# Altium footprint library CAPC4532X280N.PcbLib: 1 footprints
Each footprint in its own frame and in the unit in brackets; x right, y up, seen from the top. Pads: shape width x height; smd on the part's side, far side on the other; paste and mask are expansions set on the pad; w line width, h text height; cw(c..) or ccw(c..) is an arc to the next point about the centre after c.
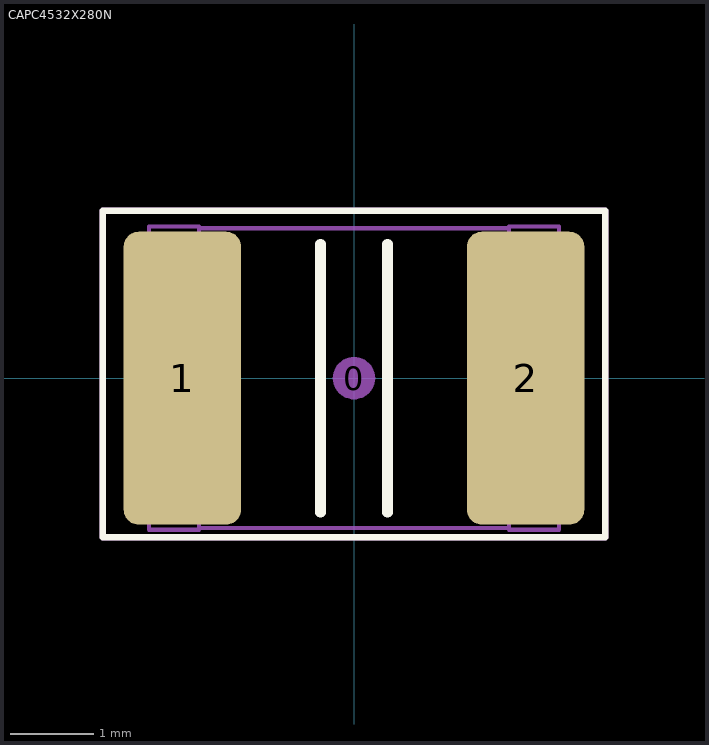
[diagram p0: the footprint, top view; thin cyan lines are the x and y axes]

## CAPC4532X280N [mm] "Chip Capacitor, Body 4.5x3.2mm, 1812, IPC Medium Density"
height 2.8
pads (3):
  round 0.508 on Mech15: 0(0,0)
  rrect25% 1.4x3.5 smd: 1(-2.05,0) 2(2.05,0)
Top Overlay:
  lines w0.076: -3,-1.9 3,-1.9 3,2 -3,2 -3,-1.9
  lines w0.127: -0.4,-1.6 -0.4,1.6 ; 0.4,-1.6 0.4,1.6
Mechanical 13:
  lines w0.05: -1.85,-1.791 1.85,-1.791 ; -1.85,1.791 1.85,1.791 ; -2.45,-1.811 -2.45,1.811 -1.85,1.811 -1.85,-1.811 -2.45,-1.811 ; 1.85,-1.811 2.45,-1.811 2.45,1.811 1.85,1.811 1.85,-1.811
Mechanical 15:
  lines w0.076: -3,-1.9 3,-1.9 3,2 -3,2 -3,-1.9
3D body "CAP_1812.STEP": height 2.79, standoff -0.01, extent -2.45,-1.8 2.45,1.8